# Altium schematic symbol library MOSFET-N.Schlib: 1 symbol
Pins are listed as number, name and electrical type; pins without a type are passive.

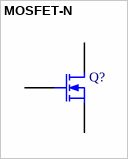
[diagram p0: symbol MOSFET-N]

## MOSFET-N
designator Q?
N-Channel MOSFET
pins: 1 D, 2 G, 3 S